# Altium schematic symbol library SEMICONDUCTORS_Test.SchLib: 17 symbols
Pins are listed as number, name and electrical type; pins without a type are passive.

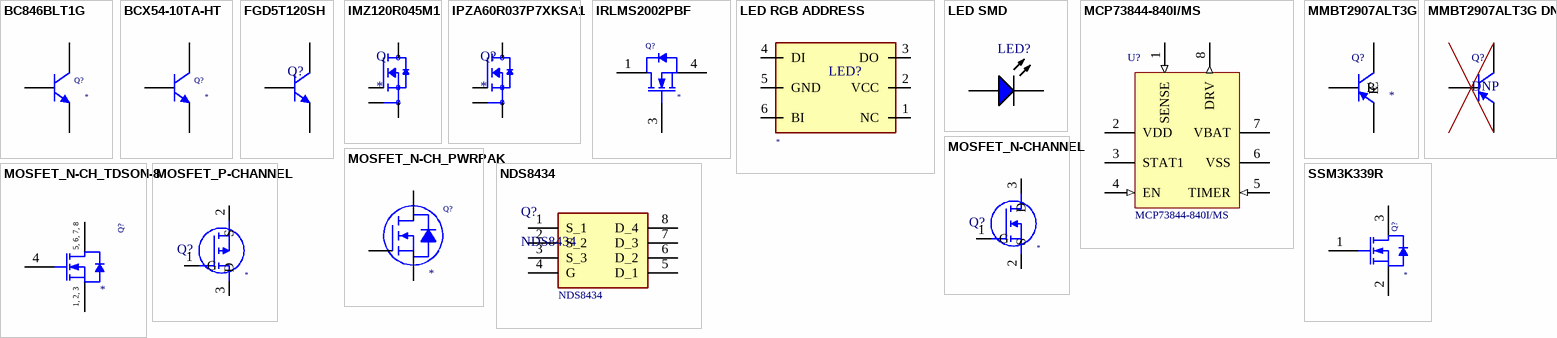
[diagram p0: symbols BC846BLT1G to SSM3K339R]

## BC846BLT1G
designator Q?
TRANS NPN 65V 0.1A SOT23; Manufacturer Part Number: *
pins: 1 B, 2 E, 3 C

## BCX54-10TA-HT
designator Q?
TRANSISTOR DIS.1A 45V NPN SOT89 EPITAXIAL SMT; Manufacturer Part Number: *
simulation model BCX54-10
pins: 1 B, 2 E, 3 C

## FGD5T120SH
designator Q?  (value not drawn)
IGBT 1200V 5A FS3 DPAK
simulation model FGD5T120SH ($)
pins: 1 G, 3 E, 4 C

## IMZ120R045M1
designator Q
CoolSiC 1200V SiC Trench MOSFET 45 mOhm in TO247 4-pin; MP: IMZ120R045M1; MF: Infineon Technologies; SnapEDA_Link: https://www.snapeda.com/parts/IMZ120R045M1/Infineon%20Technologies/view-part/4544818/?ref=snap; Value: *; Package: TO-247-4 Infineon; Price: None; Availability: Unavailable
footprint TO254P1613X521X2550-4
pins: 1 D, 2 S, 3 DS, 4 G

## IPZA60R037P7XKSA1
designator Q?
MOSFET N CHANNEL 600V 76A 30mR; MP: IPZA60R037P7XKSA1; MF: Infineon Technologies; SnapEDA_Link: https://www.snapeda.com/parts/IMZ120R045M1/Infineon%20Technologies/view-part/4544818/?ref=snap; Value: *; Package: TO-247-4 Infineon; Price: None; Availability: Unavailable
footprint TO254P1613X521X2550-4
pins: 1 D, 2 S, 3 DS, 4 G

## IRLMS2002PBF
designator Q?
MOSFET N-CH 20V 6.5A 6-TSOP; Manufacturer Part Number: *
pins: 1 D, 2 D, 3 G, 4 S, 5 D, 6 D

## LED RGB ADDRESS
designator LED?
RGB ADDRESSABLE LED; Manufacturer Part Number: *
pins: 1 NC, 2 VCC, 3 DO, 4 DI, 5 GND, 6 BI

## LED SMD
designator LED?
pins: 1 K, 2 A

## MCP73844-840I/MS
designator U?
MICROCHIP   MCP73844-840I/MS   BATT CHARGER, LI-ION, 8.4V, 8MSOP; Supplier 1: Digi-Key; Manufacturer 1: Microchip; RoHS: Yes; Category: Battery Management; Stock 1: 511; Pricing 1: 1=1.30000, 25=1.09000, 100=0.99000 (USD); ComponentLink1URL: https://datasheet.ciiva.com/1137/1791051-1137892.pdf?src-supplier=Element14; ComponentLink1Description: https://datasheet.ciiva.com/1137/1791051-1137892.pdf?src-supplier=Element14; ComponentLink2URL: https://datasheet.ciiva.com/1933/21823c-1933109.pdf?src-supplier=Digi-Key; ComponentLink2Description: https://datasheet.ciiva.com/1933/21823c-1933109.pdf?src-supplier=Digi-Key; ComponentLink3URL: https://datasheet.ciiva.com/17299/21823c-17299692.pdf?src-supplier=Avnet+Europe; ComponentLink3Description: https://datasheet.ciiva.com/17299/21823c-17299692.pdf?src-supplier=Avnet+Europe; ComponentLink4URL: https://datasheet.ciiva.com/3213/21823c-3213421.pdf?src-supplier=Avnet; ComponentLink4Description: https://datasheet.ciiva.com/3213/21823c-3213421.pdf?src-supplier=Avnet; ComponentLink5URL: https://datasheet.ciiva.com/4873/21823c-69196-4873422.pdf?src-supplier=Mouser; ComponentLink5Description: https://datasheet.ciiva.com/4873/21823c-69196-4873422.pdf?src-supplier=Mouser; Supplier Part Number 1: MCP73844-840I/MS-ND; Manufacturer Part Number 1: MCP73844-840I/MS
footprint MSOP-MS8_M (TSOP, 8-Leads, Body 3x3mm, Pitch 0.65mm, IPC Low Density)
pins: 1 SENSE (in), 2 VDD (power), 3 STAT1 (oc), 4 EN (in), 5 TIMER (in), 6 VSS (power), 7 VBAT (power), 8 DRV (out)

## MMBT2907ALT3G
designator Q?
TRANS PNP 60V 0.6A SOT-23; Manufacturer Part Number: *
pins: 1 B, 2 E, 3 C

## MMBT2907ALT3G DNP
designator Q?, comment DNP
pins: 1 B, 2 E, 3 C

## MOSFET_N-CH_PWRPAK
designator Q?
MOSFET N-CH PPAK SO-8; Manufacturer Part Number: *
pins: 1 S, 2 S, 3 S, 4 G, 5 D, 6 D, 7 D, 8 D, 9 PPAD

## MOSFET_N-CH_TDSON-8
designator Q?
MOSFET N-CH TDSON-8; Manufacturer Part Number: *
pins: 1 SOURCE, 2 SOURCE, 3 SOURCE, 4 GATE, 5 DRAIN, 6 DRAIN, 7 DRAIN, 8 DRAIN
text: 5, 6, 7, 8; 1, 2, 3

## MOSFET_N-CHANNEL
designator Q?
MOSFET (N-Channel); Manufacturer Part Number: *
pins: 1 G, 2 S, 3 D

## MOSFET_P-CHANNEL
designator Q?
MOSFET (P-Channel); Manufacturer Part Number: *
pins: 1 G, 2 S, 3 D

## NDS8434
designator Q?
MOSFET P-CH 20V 6.5A 8-SOIC; Manufacturer 1: ON Semiconductor / Fairchild; Drain to Source Breakdown Voltage: -20V; Rise Time: 38ns; Fall Time: 63ns; Power Dissipation: 2.5W; Drain to Source Resistance: 35mR; Turn-Off Delay Time: 169ns; Gate to Source Voltage (Vgs): 8V; Max Power Dissipation: 1W; Number of Elements: 1; Element Configuration: Single; Input Capacitance: 2.33nF; Turn-On Delay Time: 20ns; Current Rating: -6.7A; Threshold Voltage: -700mV; Supplier 1: Digi-Key; RoHS: Yes; Category: MOSFETs; Stock 1: 1892; Pricing 1: 1=1.53000, 10=1.37100, 25=1.29360, 100=1.00910, 250=0.98324, 500=0.85388, 1000=0.72450 (USD); Mount: Surface Mount; Case/Package: SOIC; Number of Pins: 8; Weight: 0.2304g; Min Operating Temperature: -55°C; Max Operating Temperature: 150°C; Packaging: Tape and Reel; Continuous Drain Current (ID): 6.5A; Package Quantity: 1; Rds On Max: 35mR; Drain to Source Voltage (Vdss): 20V; Voltage Rating (DC): -20V; On-State Resistance: 35mR; Radiation Hardening: No; REACH SVHC: No SVHC; Lead Free: Lead Free; ComponentLink1URL: https://datasheet.ciiva.com/933/nds8434-933058.pdf?src-supplier=Digi-Key; ComponentLink1Description: https://datasheet.ciiva.com/933/nds8434-933058.pdf?src-supplier=Digi-Key; ComponentLink2URL: https://datasheet.ciiva.com/26791/nds8434-26791713.pdf?src-supplier=IIIC; ComponentLink2Description: https://datasheet.ciiva.com/26791/nds8434-26791713.pdf?src-supplier=IIIC; ComponentLink3URL: https://datasheet.ciiva.com/933/nds8434-933059.pdf?src-supplier=Digi-Key; ComponentLink3Description: https://datasheet.ciiva.com/933/nds8434-933059.pdf?src-supplier=Digi-Key; ComponentLink4URL: https://datasheet.ciiva.com/933/nds8434-933060.pdf?src-supplier=Digi-Key; ComponentLink4Description: https://datasheet.ciiva.com/933/nds8434-933060.pdf?src-supplier=Digi-Key; ComponentLink5URL: https://datasheet.ciiva.com/8114/nds8434-8114599.pdf?src-supplier=Avnet; ComponentLink5Description: https://datasheet.ciiva.com/8114/nds8434-8114599.pdf?src-supplier=Avnet; ComponentLink6URL: https://datasheet.ciiva.com/16770/nds8434-16770953.pdf?src-supplier=Future+Electronics; ComponentLink6Description: https://datasheet.ciiva.com/16770/nds8434-16770953.pdf?src-supplier=Future+Electronics; ComponentLink7URL: https://datasheet.ciiva.com/11176/nds8434-11176047.pdf?src-supplier=Avnet; ComponentLink7Description: https://datasheet.ciiva.com/11176/nds8434-11176047.pdf?src-supplier=Avnet; Supplier Part Number 1: NDS8434CT-ND; Manufacturer Part Number 1: NDS8434
footprint NSO8_N (SOIC, 8-Leads, Body 4.9x3.9mm, Pitch 1.27mm, IPC Medium Density)
pins: 1 S_1, 2 S_2, 3 S_3, 4 G, 5 D_1, 6 D_2, 7 D_3, 8 D_4

## SSM3K339R
designator Q?
MOSFET N-CH 40V 2A SOT-23F; Manufacturer Part Number: *
pins: 1 G, 2 S, 3 D